# EAGLE library part SENS_T-TMP100 (library eagleLib v2)
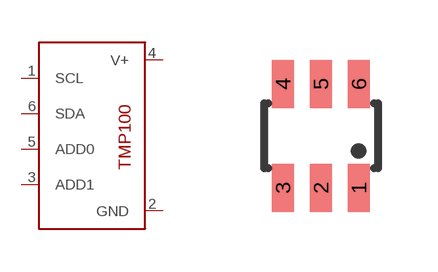
[diagram p9: symbol with the pads of SOT23-6; footprint SOT23-6]

Designator prefix -

## SENS_T-TMP100  [SOT23-6]
1  SCL
2  GND
3  ADD1
4  V+
5  ADD0
6  SDA

## Footprint SOT23-6 (pad centres in mm)
smd 0.55 x 1.2: 1 0.95,-1.3; 2 0,-1.3; 3 -0.95,-1.3; 4 -0.95,1.3; 5 0,1.3; 6 0.95,1.3